# EAGLE library part 52746-1033 (library SamacSys_Parts)
Easy-On FFC/FPC Connector, 0.50mm Pitch, Slider Series, Right-Angle, Bottom Contact, 2.00mm Height, Circuits, Gold Plating Source: Datasheet <https://componentsearchengine.com/Datasheets/2/52746-1033.pdf>
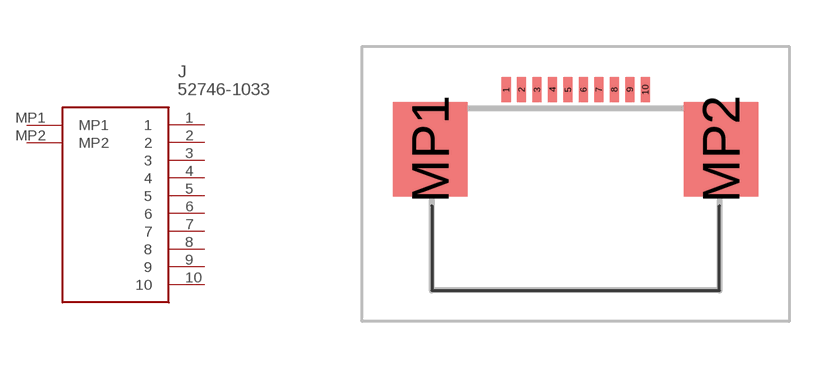
[diagram p6: symbol with the pads of 527461033; footprint 527461033]

Designator prefix J

## 52746-1033 (DESCRIPTION: Easy-On FFC/FPC Connector, 0.50mm Pitch, Slider Series, Right-Angle, Bottom Contact, 2.00mm Height, Circuits, Gold Plating; HEIGHT: 2mm; MANUFACTURER_NAME: Molex; MANUFACTURER_PART_NUMBER: 52746-1033; MOUSER_PART_NUMBER: 538-52746-1033; MOUSER_PRICE-STOCK: https://www.mouser.co.uk/ProductDetail/Molex/52746-1033?qs=BTG2th8YmhQnULJwCDF3cA%3D%3D)  [527461033]
1  1
2  2
3  3
4  4
5  5
6  6
7  7
8  8
9  9
10  10
MP1  MP1
MP2  MP2

## Footprint 527461033 (pad centres in mm)
52746-1033-2
smd 0.3 x 0.8: 1 -2.25,3.25; 2 -1.75,3.25; 3 -1.25,3.25; 4 -0.75,3.25; 5 -0.25,3.25; 6 0.25,3.25; 7 0.75,3.25; 8 1.25,3.25; 9 1.75,3.25; 10 2.25,3.25
smd 2.4 x 3.05: MP1 -4.7,1.325; MP2 4.7,1.325